# EAGLE library part FT245B (library ftdichip)
FTDI - FT245BM USB-FIFO Wrapper The FT245BM is the 2nd generation of FTDI's popular USB FIFO device and the FT245BL is a lead free version of it. This device not only adds extra functionality to its predecessor (FT8U245AM) and reduces external component count, but also maintains a high degree of pin compatibility with the original making it easy to upgrade or cost reduce existing designs as well as increasing the potential for using this device in new application areas. The FT245BQ provides the same functionality as the FT245BM and FT245BL in a QFN-32 lead free package. To find out more about the FT245BM, FT245BL and FT245BQ, goto http://ftdichip.com/Products/FT245BM.htm
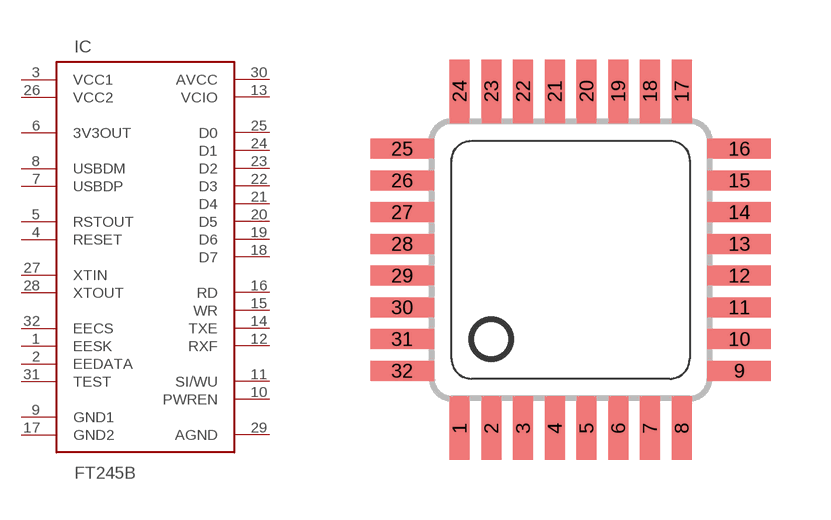
[diagram p1: symbol with the pads of QFP-32; footprint QFP-32]

Designator prefix IC

## FT245BM  [QFP-32]
1  EESK
2  EEDATA
3  VCC1  pwr
4  RESET  in
5  RSTOUT  out
6  3V3OUT  out
7  USBDP
8  USBDM
9  GND1  sup
10  PWREN  out
11  SI/WU  in
12  RXF  out
13  VCIO  in
14  TXE  out
15  WR  in
16  RD  in
17  GND2  sup
18  D7
19  D6
20  D5
21  D4
22  D3
23  D2
24  D1
25  D0
26  VCC2  pwr
27  XTIN  in
28  XTOUT  out
29  AGND  in
30  AVCC  in
31  TEST  in
32  EECS

## Footprint QFP-32 (pad centres in mm)
Package QFP-32
smd 0.508 x 1.6: 1 -2.8,-4.25; 2 -2,-4.25; 3 -1.2,-4.25; 4 -0.4,-4.25; 5 0.4,-4.25; 6 1.2,-4.25; 7 2,-4.25; 8 2.8,-4.25; 17 2.8,4.25; 18 2,4.25; 19 1.2,4.25; 20 0.4,4.25; 21 -0.4,4.25; 22 -1.2,4.25; 23 -2,4.25; 24 -2.8,4.25
smd 1.6 x 0.508: 9 4.25,-2.8; 10 4.25,-2; 11 4.25,-1.2; 12 4.25,-0.4; 13 4.25,0.4; 14 4.25,1.2; 15 4.25,2; 16 4.25,2.8; 25 -4.25,2.8; 26 -4.25,2; 27 -4.25,1.2; 28 -4.25,0.4; 29 -4.25,-0.4; 30 -4.25,-1.2; 31 -4.25,-2; 32 -4.25,-2.8